# Altium schematic symbol library LTST-C230GKT.SchLib: 1 symbol
Pins are listed as number, name and electrical type; pins without a type are passive.

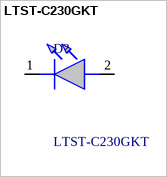
[diagram p0: symbol LTST-C230GKT]

## LTST-C230GKT
designator D?
Lite-On LTST-C230GKT Green LED, 569 nm, 3016 (1206), Rectangle Lens SMD Package; Geometry.Height: 1.2mm; Mouser Part Number: 859-LTST-C230GKT; Mouser Price/Stock: https://www.mouser.co.uk/ProductDetail/Lite-On/LTST-C230GKT?qs=7ZnIBiPc9DrbEstVFO1DAg%3D%3D; Manufacturer_Name: Lite-On; Manufacturer_Part_Number: LTST-C230GKT; Datasheet Link: *
footprint LEDC3216X120N
pins: 1 K, 2 A